# Altium schematic symbol library MD_AG1171.SchLib: 1 symbol
Pins are listed as number, name and electrical type; pins without a type are passive.

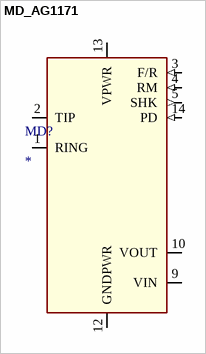
[diagram p0: symbol MD_AG1171]

## MD_AG1171
designator MD?
pins: 1 RING, 2 TIP, 3 F/R (in), 4 RM (in), 5 SHK (out), 9 VIN, 10 VOUT, 12 GNDPWR, 13 VPWR, 14 PD (in)